# EAGLE library part J1B1211CCD (library ENC424J600_ethernet_circuits (1))
J1B1211CCD SINGLE RJ45 CONNECTOR MODULE WITH 10/100 BASE-TX MAGNETICS AND LEDS. -Suitable for CAT 5 & 6 Fast Ethernet Cable or better UTP. -Meets or exceeds IEEE 802.3 standard for 100 Base-T. -350 µH minimum OCL with 8 mA bias current. -Minimum 1500 Vrms isolation per IEEE 802.3 requirement. -All materials are RoHS and UL94-V0 compliant. -RoHS peak solder rating 260°C. -Meet EN60950-1 basic insulation requirement. -Recommended panel. Check prices <https://pricing.snapeda.com/parts/J1B1211CCD/Ceetus/view-part?ref=eda>
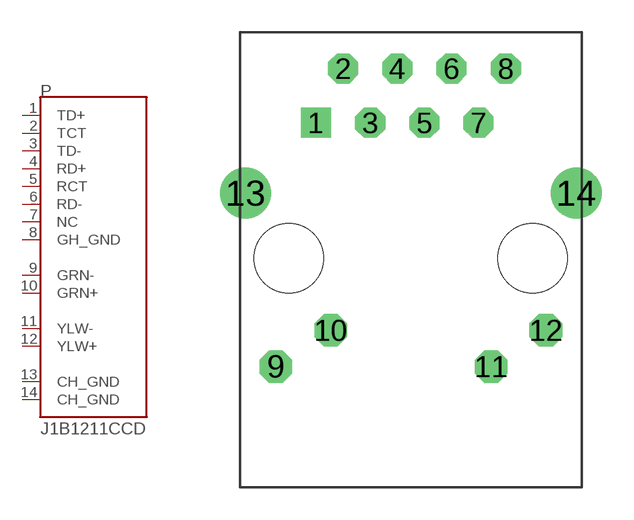
[diagram p1: symbol with the pads of J1B1211CCD; footprint J1B1211CCD]

Designator prefix P

## J1B1211CCD (AVAILABILITY: In Stock; DESCRIPTION: 1 Port RJ45 Magjack Connector Through Hole 10/100 Base-T, AutoMDIX; MF: Ceetus; MP: J1B1211CCD; PACKAGE: None; PRICE: None; PURCHASE-URL: https://pricing.snapeda.com/search/part/J1B1211CCD/?ref=eda)  [J1B1211CCD]
1  TD+  pas
2  TCT  pas
3  TD-  pas
4  RD+  pas
5  RCT  pas
6  RD-  pas
7  NC  pas
8  GH_GND  pas
9  GRN-  pas
10  GRN+  pas
11  YLW-  pas
12  YLW+  pas
13  CH_GND  pas
14  CH_GND  pas

## Footprint J1B1211CCD (pad centres in mm)
drill 0.9 square: 1 -4.445,6.35
drill 0.9 octagon: 2 -3.175,8.89; 3 -1.905,6.35; 4 -0.635,8.89; 5 0.635,6.35; 6 1.905,8.89; 7 3.175,6.35; 8 4.445,8.89
drill 1.02 octagon: 9 -6.325,-5.08; 10 -3.758,-3.38; 11 3.758,-5.08; 12 6.325,-3.38
drill 1.6: 13 -7.75,3.05; 14 7.75,3.05
hole 3.25 at -5.715,0
hole 3.25 at 5.715,0